# EAGLE library part A4988 (library untitled)
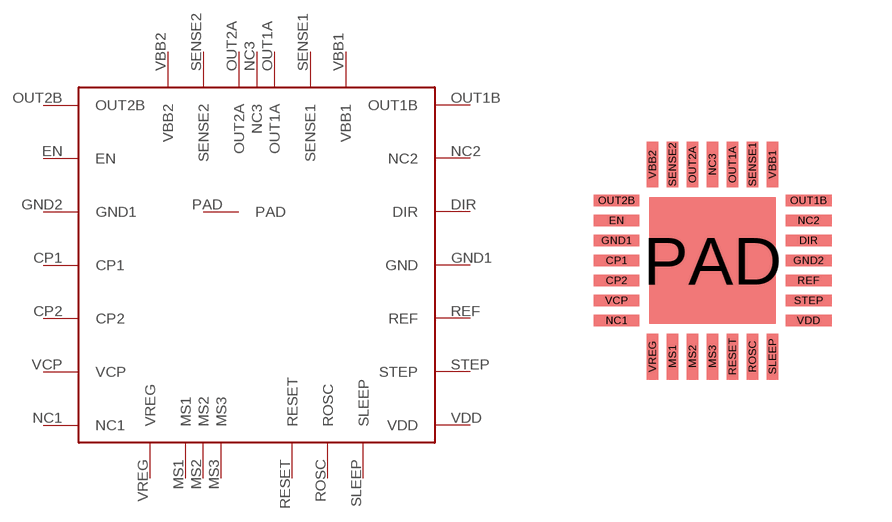
[diagram p13: symbol with the pads of A4988; footprint A4988]

Designator prefix -

## A4988  [A4988]
CP1  CP1
CP2  CP2
DIR  DIR
EN  EN
GND1  GND
GND2  GND1
MS1  MS1
MS2  MS2
MS3  MS3
NC1  NC1
NC2  NC2
NC3  NC3
OUT1A  OUT1A
OUT1B  OUT1B
OUT2A  OUT2A
OUT2B  OUT2B
PAD  PAD
REF  REF
RESET  RESET
ROSC  ROSC
SENSE1  SENSE1
SENSE2  SENSE2
SLEEP  SLEEP
STEP  STEP
VBB1  VBB1
VBB2  VBB2
VCP  VCP
VDD  VDD
VREG  VREG

## Footprint A4988 (pad centres in mm)
smd 1.15 x 0.28: CP1 -2.4,0; CP2 -2.4,-0.5; DIR 2.4,0.5; EN -2.4,1; GND1 -2.4,0.5; GND2 2.4,0; NC1 -2.4,-1.5; NC2 2.4,1; OUT1B 2.4,1.5; OUT2B -2.4,1.5; REF 2.4,-0.5; STEP 2.4,-1; VCP -2.4,-1; VDD 2.4,-1.5
smd 0.28 x 1.15: MS1 -1,-2.4; MS2 -0.5,-2.4; MS3 0,-2.4; NC3 0,2.4; OUT1A 0.5,2.4; OUT2A -0.5,2.4; RESET 0.5,-2.4; ROSC 1,-2.4; SENSE1 1,2.4; SENSE2 -1,2.4; SLEEP 1.5,-2.4; VBB1 1.5,2.4; VBB2 -1.5,2.4; VREG -1.5,-2.4
smd 3.15 x 3.15: PAD 0,0